# EAGLE library part SPLITPAC_OMEGA2 (library crawler2)
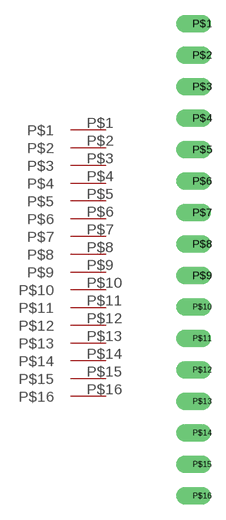
[diagram p4: symbol with the pads of SPLITTED_OMEGA2; footprint SPLITTED_OMEGA2]

Designator prefix -

## SPLITPAC_OMEGA2  [SPLITTED_OMEGA2]
P$1  P$1
P$2  P$2
P$3  P$3
P$4  P$4
P$5  P$5
P$6  P$6
P$7  P$7
P$8  P$8
P$9  P$9
P$10  P$10
P$11  P$11
P$12  P$12
P$13  P$13
P$14  P$14
P$15  P$15
P$16  P$16

## Footprint SPLITTED_OMEGA2 (pad centres in mm)
drill 0.6 offset: P$1 2,16; P$2 2,14; P$3 2,12; P$4 2,10; P$5 2,8; P$6 2,6; P$7 2,4; P$8 2,2; P$9 2,0; P$10 2,-2; P$11 2,-4; P$12 2,-6; P$13 2,-8; P$14 2,-10; P$15 2,-12; P$16 2,-14